# Altium integrated library BC847BT-7-F.IntLib: 1 symbol
Pins are listed as number, name and electrical type; pins without a type are passive.

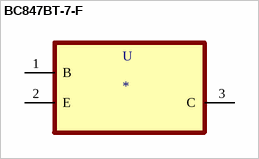
[diagram p0: symbol BC847BT-7-F]

## BC847BT-7-F
designator U
Bipolar _BJT_ Transistor NPN 45V 100mA 100MHz 150mW Surface Mount SOT-523; MF: Diodes Inc.; MP: BC847BT-7-F; SnapEDA_Link: https://www.snapeda.com/parts/BC847BT-7-F/Diodes%20Inc./view-part/316810/?ref=snap; Availability: Unavailable; Price: None; Package: SOT-523 Diodes Inc.; Value: *
footprint SOT50P160X90-3N
pins: 1 B, 2 E, 3 C